# EAGLE library part TBD62003A (library we-chip)
Toshiba TBD62003 7-Bit DMOS Transistor Array (Low Side) with clamp diodes Vmax 50 V Imax 500 mA/ch Rds 2 Ohm
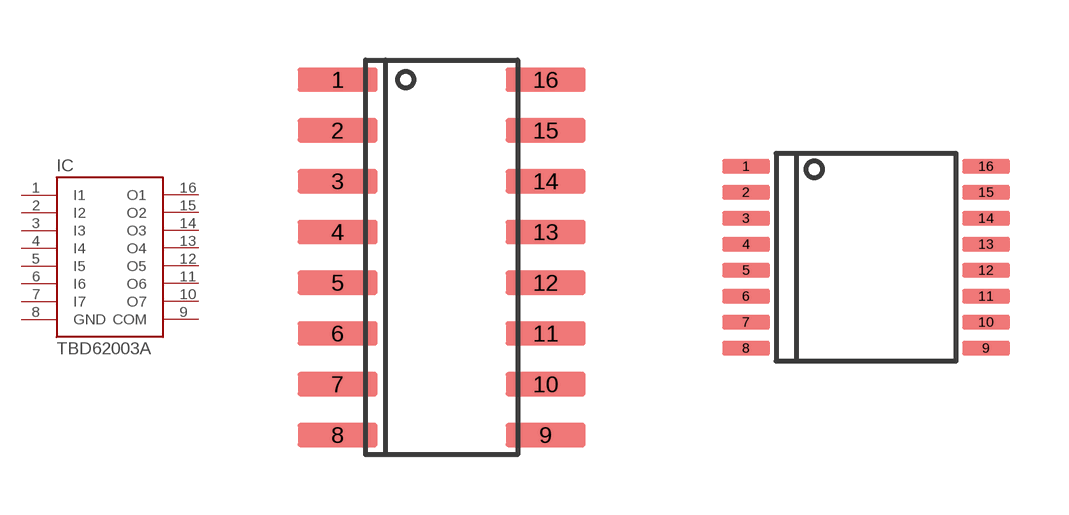
[diagram p31: symbol with the pads of SO16; footprints SO16, TSSOP16]

Designator prefix IC

## TBD62003A-FWG (DIGIKEY: TBD62003AFWGELDKR-ND)  [SO16]
1  I1  in
2  I2  in
3  I3  in
4  I4  in
5  I5  in
6  I6  in
7  I7  in
8  GND  pwr
9  COM  pas
10  O7  oc
11  O6  oc
12  O5  oc
13  O4  oc
14  O3  oc
15  O2  oc
16  O1  oc

## TBD62003A-FNG (DIGIKEY: TBD62003AFNGELDKR-ND)  [TSSOP16]
Pads as for SO16

## Footprint SO16 (pad centres in mm)
smd 2 x 0.6: 1 -2.6,4.445; 2 -2.6,3.175; 3 -2.6,1.905; 4 -2.6,0.635; 5 -2.6,-0.635; 6 -2.6,-1.905; 7 -2.6,-3.175; 8 -2.6,-4.445; 9 2.6,-4.445; 10 2.6,-3.175; 11 2.6,-1.905; 12 2.6,-0.635; 13 2.6,0.635; 14 2.6,1.905; 15 2.6,3.175; 16 2.6,4.445

## Footprint TSSOP16 (pad centres in mm)
smd 1.2 x 0.35: 1 -3,2.275; 2 -3,1.625; 3 -3,0.975; 4 -3,0.325; 5 -3,-0.325; 6 -3,-0.975; 7 -3,-1.625; 8 -3,-2.275; 9 3,-2.275; 10 3,-1.625; 11 3,-0.975; 12 3,-0.325; 13 3,0.325; 14 3,0.975; 15 3,1.625; 16 3,2.275